# Altium schematic symbol library BTN7930P.SchLib: 1 symbol
Pins are listed as number, name and electrical type; pins without a type are passive.

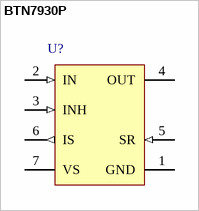
[diagram p0: symbol BTN7930P]

## BTN7930P
designator U?
High Current PN Half Bridge NovalithIC, 5.5 to 28 V, -40 to 150 degC, PG-TO220-7-11, Tube, Green; Manufacturer: Infineon; PartNumber: BTN7930P; Green: TRUE; ID(lim): 32 A; ID(lim) (min): 20 A; Iq (typ): 7 uA; Protect: OV, UV, OT, OC; RDS(on) (typ): 29.2 mOhm; VS (max): 45 V; DatasheetVersion: Rev. 1.1; PackageVersion: Jul-07; PackageReference: PG-TO220-7-11; PackageDescription: 7-Pin Plastic (Green) Transistor Single Outline Package, 10 x 9.25 mm Body, 1.27 mm Pitch; Supplier 1: Digi-Key; Supplier Part Number 1: BTN7930P-ND; Supplier 2: Mouser; Supplier Part Number 2: 726-BTN7930P; Group: NovalithIC; Halogen-free: TRUE; Inhibit: TRUE; Operating Range: 5.5 to 28 V; Mounting Technology: Through Hole; ComponentLink1Description: Manufacturer URL; ComponentLink1URL: http://www.infineon.com/; ComponentLink2Description: Datasheet; ComponentLink2URL: http://www.infineon.com/dgdl/BTN7930_DS_11.pdf?folderId=db3a3043156fd5730116144c5d101c30&fileId=db3a304316f66ee80117641dba046a6e&location=en.Products.Automotive_ICs.Motor_Drivers__Automotive_.Integrated_High_Current_Motor_Drivers__NovalithIC____Trilith_IC_.DATASHEET.BTN7930_DS_11.pdf; ComponentLink3Description: Package Specification; ComponentLink3URL: http://www.infineon.com/dgdl/TLE5205-2_DS_11%5B1%5D.pdf?folderId=db3a30431b3e89eb011bb632994f065b&fileId=db3a30431f848401011fc747c7a0797f&sId=db3a30433d68e984013d7d43135b5b6a
footprint INF-PG-TO220-7-11 (FM, 7-Leads, Body 10x9.25mm, Pitch 1.27mm)
pins: 1 GND (power) "Ground", 2 IN (in) "Input Defines whether high- or lowside switch is activated", 3 INH (in) "Inhibit When set to low device goes in sleep mode", 4 OUT (power) "Power output of the bridge", 5 SR (in) "Slew Rate The slew rate of the power switches can be adjusted by connecting a resistor between SR and GND", 6 IS (out) "Current Sense and Diagnostics", 7 VS (power) "Supply"